# EAGLE library part BQ24168RGET (library 32bits)
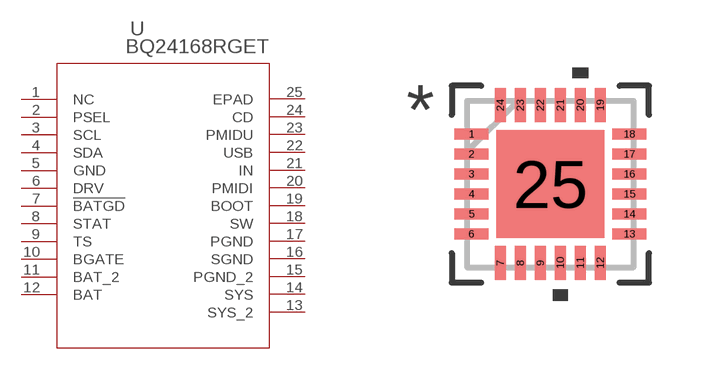
[diagram p13: symbol with the pads of RGE24_2P7X2P7; footprint RGE24_2P7X2P7]

Designator prefix U

## BQ24168RGET (MANUFACTURER_PART_NUMBER: bq24168rget; VENDOR: Texas Instruments)  [RGE24_2P7X2P7]
1  NC  nc
2  PSEL  in
3  SCL  in
4  SDA
5  GND  pwr
6  DRV  out
7  !BATGD  pas
8  STAT  out
9  TS  in
10  BGATE  out
11  BAT_2
12  BAT
13  SYS_2  in
14  SYS  in
15  PGND_2  pwr
16  SGND  pwr
17  PGND  pwr
18  SW  out
19  BOOT  in
20  PMIDI  out
21  IN  in
22  USB  in
23  PMIDU  out
24  CD  in
25  EPAD  pas

## Footprint RGE24_2P7X2P7 (pad centres in mm)
smd 0.85 x 0.28: 1 -1.975,1.25; 2 -1.975,0.75; 3 -1.975,0.25; 4 -1.975,-0.25; 5 -1.975,-0.75; 6 -1.975,-1.25; 13 1.975,-1.25; 14 1.975,-0.75; 15 1.975,-0.25; 16 1.975,0.25; 17 1.975,0.75; 18 1.975,1.25
smd 0.28 x 0.85: 7 -1.25,-1.975; 8 -0.75,-1.975; 9 -0.25,-1.975; 10 0.25,-1.975; 11 0.75,-1.975; 12 1.25,-1.975; 19 1.25,1.975; 20 0.75,1.975; 21 0.25,1.975; 22 -0.25,1.975; 23 -0.75,1.975; 24 -1.25,1.975
smd 2.7 x 2.7: 25 0,0